# EAGLE library part DF57H-6P (library 445-eagle-lib)
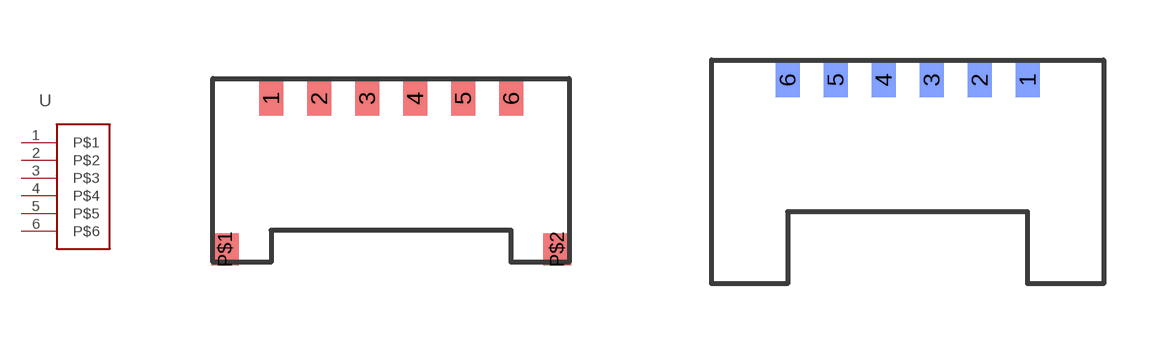
[diagram p0: symbol with the pads of DF57H-6P-TOP; footprints DF57H-6P-TOP, DF57H-6P-BOTTOM]

Designator prefix -

## DF57H-6PTOP  [DF57H-6P-TOP]
1  P$1
2  P$2
3  P$3
4  P$4
5  P$5
6  P$6

## DF57H-6PBOTTOM  [DF57H-6P-BOTTOM]
Pads as for DF57H-6P-TOP

## Footprint DF57H-6P-TOP (pad centres in mm)
DF57H-6P connector for pcb
smd 0.6 x 0.85: 1 -3,2.3; 2 -1.8,2.3; 3 -0.6,2.3; 4 0.6,2.3; 5 1.8,2.3; 6 3,2.3
smd 0.7 x 0.8: P$1 -4.15,-1.475; P$2 4.15,-1.475

## Footprint DF57H-6P-BOTTOM (pad centres in mm)
DF57H-6P connector for bottom side pcb
smd 0.6 x 0.85 bottom: 1 3,2.3; 2 1.8,2.3; 3 0.6,2.3; 4 -0.6,2.3; 5 -1.8,2.3; 6 -3,2.3